# Altium footprint library micro-hitachi.PCBLIB: 2 footprints
Each footprint in its own frame and in the unit in brackets; x right, y up, seen from the top. Pads: shape width x height; smd on the part's side, far side on the other; paste and mask are expansions set on the pad; w line width, h text height; cw(c..) or ccw(c..) is an arc to the next point about the centre after c.
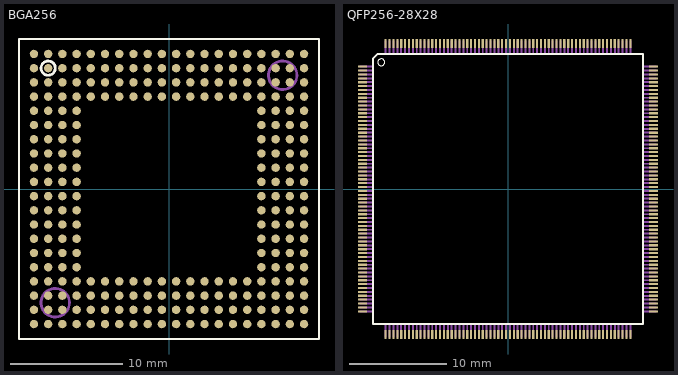
[diagram p0: the footprints below, top view; thin cyan lines are the x and y axes]

## BGA256 [mil]
pads (256):
  rrect100% 29.53x29.53 smd: A1(-475,475) A2(-425,475) A3(-375,475) A4(-325,475) A5(-275,475) A6(-225,475) A7(-175,475) A8(-125,475) A9(-75,475) A10(-25,475) A11(25,475) A12(75,475) A13(125,475) A14(175,475) A15(225,475) A16(275,475) A17(325,475) A18(375,475) A19(425,475) A20(475,475) B1(-475,425) B2(-425,425) B3(-375,425) B4(-325,425) B5(-275,425) B6(-225,425) B7(-175,425) B8(-125,425) B9(-75,425) B10(-25,425) B11(25,425) B12(75,425) B13(125,425) B14(175,425) B15(225,425) B16(275,425) B17(325,425) B18(375,425) B19(425,425) B20(475,425) C1(-475,375) C2(-425,375) C3(-375,375) C4(-325,375) C5(-275,375) C6(-225,375) C7(-175,375) C8(-125,375) C9(-75,375) C10(-25,375) C11(25,375) C12(75,375) C13(125,375) C14(175,375) C15(225,375) C16(275,375) C17(325,375) C18(375,375) C19(425,375) C20(475,375) D1(-475,325) D2(-425,325) D3(-375,325) D4(-325,325) D5(-275,325) D6(-225,325) D7(-175,325) D8(-125,325) D9(-75,325) D10(-25,325) D11(25,325) D12(75,325) D13(125,325) D14(175,325) D15(225,325) D16(275,325) D17(325,325) D18(375,325) D19(425,325) D20(475,325) E1(-475,275) E2(-425,275) E3(-375,275) E4(-325,275) E17(325,275) E18(375,275) E19(425,275) E20(475,275) F1(-475,225) F2(-425,225) F3(-375,225) F4(-325,225) F17(325,225) F18(375,225) F19(425,225) F20(475,225) G1(-475,175) G2(-425,175) G3(-375,175) G4(-325,175) G17(325,175) G18(375,175) G19(425,175) G20(475,175) H1(-475,125) H2(-425,125) H3(-375,125) H4(-325,125) H17(325,125) H18(375,125) H19(425,125) H20(475,125) J1(-475,75) J2(-425,75) J3(-375,75) J4(-325,75) J17(325,75) J18(375,75) J19(425,75) J20(475,75) K1(-475,25) K2(-425,25) K3(-375,25) K4(-325,25) K17(325,25) K18(375,25) K19(425,25) K20(475,25) L1(-475,-25) L2(-425,-25) L3(-375,-25) L4(-325,-25) L17(325,-25) L18(375,-25) L19(425,-25) L20(475,-25) M1(-475,-75) M2(-425,-75) M3(-375,-75) M4(-325,-75) M17(325,-75) M18(375,-75) M19(425,-75) M20(475,-75) N1(-475,-125) N2(-425,-125) N3(-375,-125) N4(-325,-125) N17(325,-125) N18(375,-125) N19(425,-125) N20(475,-125) P1(-475,-175) P2(-425,-175) P3(-375,-175) P4(-325,-175) P17(325,-175) P18(375,-175) P19(425,-175) P20(475,-175) R1(-475,-225) R2(-425,-225) R3(-375,-225) R4(-325,-225) R17(325,-225) R18(375,-225) R19(425,-225) R20(475,-225) T1(-475,-275) T2(-425,-275) T3(-375,-275) T4(-325,-275) T17(325,-275) T18(375,-275) T19(425,-275) T20(475,-275) U1(-475,-325) U2(-425,-325) U3(-375,-325) U4(-325,-325) U5(-275,-325) U6(-225,-325) U7(-175,-325) U8(-125,-325) U9(-75,-325) U10(-25,-325) U11(25,-325) U12(75,-325) U13(125,-325) U14(175,-325) U15(225,-325) U16(275,-325) U17(325,-325) U18(375,-325) U19(425,-325) U20(475,-325) V1(-475,-375) V2(-425,-375) V3(-375,-375) V4(-325,-375) V5(-275,-375) V6(-225,-375) V7(-175,-375) V8(-125,-375) V9(-75,-375) V10(-25,-375) V11(25,-375) V12(75,-375) V13(125,-375) V14(175,-375) V15(225,-375) V16(275,-375) V17(325,-375) V18(375,-375) V19(425,-375) V20(475,-375) W1(-475,-425) W2(-425,-425) W3(-375,-425) W4(-325,-425) W5(-275,-425) W6(-225,-425) W7(-175,-425) W8(-125,-425) W9(-75,-425) W10(-25,-425) W11(25,-425) W12(75,-425) W13(125,-425) W14(175,-425) W15(225,-425) W16(275,-425) W17(325,-425) W18(375,-425) W19(425,-425) W20(475,-425) Y1(-475,-475) Y2(-425,-475) Y3(-375,-475) Y4(-325,-475) Y5(-275,-475) Y6(-225,-475) Y7(-175,-475) Y8(-125,-475) Y9(-75,-475) Y10(-25,-475) Y11(25,-475) Y12(75,-475) Y13(125,-475) Y14(175,-475) Y15(225,-475) Y16(275,-475) Y17(325,-475) Y18(375,-475) Y19(425,-475) Y20(475,-475)
Top Overlay:
  circle w10: c-425,425 r25
  lines w8: -527.56,-527.13 -527.56,527.13 ; -527.13,-527.56 527.13,-527.56 ; -527.13,527.56 527.13,527.56 ; 527.56,-527.13 527.56,527.13
Mechanical 16:
  circle w10: c-400,-400 r50
  circle w10: c400,400 r50

## QFP256-28X28 [mm]
pads (256):
  rect 0.9x0.22 smd: 1(-14.975,12.6) 2(-14.975,12.2) 3(-14.975,11.8) 4(-14.975,11.4) 5(-14.975,11) 6(-14.975,10.6) 7(-14.975,10.2) 8(-14.975,9.8) 9(-14.975,9.4) 10(-14.975,9) 11(-14.975,8.6) 12(-14.975,8.2) 13(-14.975,7.8) 14(-14.975,7.4) 15(-14.975,7) 16(-14.975,6.6) 17(-14.975,6.2) 18(-14.975,5.8) 19(-14.975,5.4) 20(-14.975,5) 21(-14.975,4.6) 22(-14.975,4.2) 23(-14.975,3.8) 24(-14.975,3.4) 25(-14.975,3) 26(-14.975,2.6) 27(-14.975,2.2) 28(-14.975,1.8) 29(-14.975,1.4) 30(-14.975,1) 31(-14.975,0.6) 32(-14.975,0.2) 33(-14.975,-0.2) 34(-14.975,-0.6) 35(-14.975,-1) 36(-14.975,-1.4) 37(-14.975,-1.8) 38(-14.975,-2.2) 39(-14.975,-2.6) 40(-14.975,-3) 41(-14.975,-3.4) 42(-14.975,-3.8) 43(-14.975,-4.2) 44(-14.975,-4.6) 45(-14.975,-5) 46(-14.975,-5.4) 47(-14.975,-5.8) 48(-14.975,-6.2) 49(-14.975,-6.6) 50(-14.975,-7) 51(-14.975,-7.4) 52(-14.975,-7.8) 53(-14.975,-8.2) 54(-14.975,-8.6) 55(-14.975,-9) 56(-14.975,-9.4) 57(-14.975,-9.8) 58(-14.975,-10.2) 59(-14.975,-10.6) 60(-14.975,-11) 61(-14.975,-11.4) 62(-14.975,-11.8) 63(-14.975,-12.2) 64(-14.975,-12.6) 129(14.975,-12.6) 130(14.975,-12.2) 131(14.975,-11.8) 132(14.975,-11.4) 133(14.975,-11) 134(14.975,-10.6) 135(14.975,-10.2) 136(14.975,-9.8) 137(14.975,-9.4) 138(14.975,-9) 139(14.975,-8.6) 140(14.975,-8.2) 141(14.975,-7.8) 142(14.975,-7.4) 143(14.975,-7) 144(14.975,-6.6) 145(14.975,-6.2) 146(14.975,-5.8) 147(14.975,-5.4) 148(14.975,-5) 149(14.975,-4.6) 150(14.975,-4.2) 151(14.975,-3.8) 152(14.975,-3.4) 153(14.975,-3) 154(14.975,-2.6) 155(14.975,-2.2) 156(14.975,-1.8) 157(14.975,-1.4) 158(14.975,-1) 159(14.975,-0.6) 160(14.975,-0.2) 161(14.975,0.2) 162(14.975,0.6) 163(14.975,1) 164(14.975,1.4) 165(14.975,1.8) 166(14.975,2.2) 167(14.975,2.6) 168(14.975,3) 169(14.975,3.4) 170(14.975,3.8) 171(14.975,4.2) 172(14.975,4.6) 173(14.975,5) 174(14.975,5.4) 175(14.975,5.8) 176(14.975,6.2) 177(14.975,6.6) 178(14.975,7) 179(14.975,7.4) 180(14.975,7.8) 181(14.975,8.2) 182(14.975,8.6) 183(14.975,9) 184(14.975,9.4) 185(14.975,9.8) 186(14.975,10.2) 187(14.975,10.6) 188(14.975,11) 189(14.975,11.4) 190(14.975,11.8) 191(14.975,12.2) 192(14.975,12.6)
  rect 0.22x0.9 smd: 65(-12.6,-14.975) 66(-12.2,-14.975) 67(-11.8,-14.975) 68(-11.4,-14.975) 69(-11,-14.975) 70(-10.6,-14.975) 71(-10.2,-14.975) 72(-9.8,-14.975) 73(-9.4,-14.975) 74(-9,-14.975) 75(-8.6,-14.975) 76(-8.2,-14.975) 77(-7.8,-14.975) 78(-7.4,-14.975) 79(-7,-14.975) 80(-6.6,-14.975) 81(-6.2,-14.975) 82(-5.8,-14.975) 83(-5.4,-14.975) 84(-5,-14.975) 85(-4.6,-14.975) 86(-4.2,-14.975) 87(-3.8,-14.975) 88(-3.4,-14.975) 89(-3,-14.975) 90(-2.6,-14.975) 91(-2.2,-14.975) 92(-1.8,-14.975) 93(-1.4,-14.975) 94(-1,-14.975) 95(-0.6,-14.975) 96(-0.2,-14.975) 97(0.2,-14.975) 98(0.6,-14.975) 99(1,-14.975) 100(1.4,-14.975) 101(1.8,-14.975) 102(2.2,-14.975) 103(2.6,-14.975) 104(3,-14.975) 105(3.4,-14.975) 106(3.8,-14.975) 107(4.2,-14.975) 108(4.6,-14.975) 109(5,-14.975) 110(5.4,-14.975) 111(5.8,-14.975) 112(6.2,-14.975) 113(6.6,-14.975) 114(7,-14.975) 115(7.4,-14.975) 116(7.8,-14.975) 117(8.2,-14.975) 118(8.6,-14.975) 119(9,-14.975) 120(9.4,-14.975) 121(9.8,-14.975) 122(10.2,-14.975) 123(10.6,-14.975) 124(11,-14.975) 125(11.4,-14.975) 126(11.8,-14.975) 127(12.2,-14.975) 128(12.6,-14.975) 193(12.6,14.975) 194(12.2,14.975) 195(11.8,14.975) 196(11.4,14.975) 197(11,14.975) 198(10.6,14.975) 199(10.2,14.975) 200(9.8,14.975) 201(9.4,14.975) 202(9,14.975) 203(8.6,14.975) 204(8.2,14.975) 205(7.8,14.975) 206(7.4,14.975) 207(7,14.975) 208(6.6,14.975) 209(6.2,14.975) 210(5.8,14.975) 211(5.4,14.975) 212(5,14.975) 213(4.6,14.975) 214(4.2,14.975) 215(3.8,14.975) 216(3.4,14.975) 217(3,14.975) 218(2.6,14.975) 219(2.2,14.975) 220(1.8,14.975) 221(1.4,14.975) 222(1,14.975) 223(0.6,14.975) 224(0.2,14.975) 225(-0.2,14.975) 226(-0.6,14.975) 227(-1,14.975) 228(-1.4,14.975) 229(-1.8,14.975) 230(-2.2,14.975) 231(-2.6,14.975) 232(-3,14.975) 233(-3.4,14.975) 234(-3.8,14.975) 235(-4.2,14.975) 236(-4.6,14.975) 237(-5,14.975) 238(-5.4,14.975) 239(-5.8,14.975) 240(-6.2,14.975) 241(-6.6,14.975) 242(-7,14.975) 243(-7.4,14.975) 244(-7.8,14.975) 245(-8.2,14.975) 246(-8.6,14.975) 247(-9,14.975) 248(-9.4,14.975) 249(-9.8,14.975) 250(-10.2,14.975) 251(-10.6,14.975) 252(-11,14.975) 253(-11.4,14.975) 254(-11.8,14.975) 255(-12.2,14.975) 256(-12.6,14.975)
Top Overlay:
  circle w0: c-13.05,13.05 r0.354
  lines w0.203: -13.9,-13.9 13.9,-13.9 13.9,13.9 -13.45,13.9 -13.9,13.45 -13.9,-13.9
Top Solder:
  drawing of 256 lines, arcs and shapes, not listed
Mechanical 16:
  drawing of 256 lines, arcs and shapes, not listed